# Altium schematic symbol library TPSD227M016R0200V.SchLib: 1 symbol
Pins are listed as number, name and electrical type; pins without a type are passive.

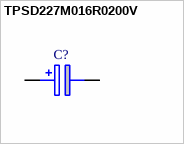
[diagram p0: symbol TPSD227M016R0200V]

## TPSD227M016R0200V
designator C?
Cap Tant Solid 220uF 16V D CASE 20% (7.3 X 4.3 X 2.9mm) Inward L SMD 7343-31 0.2 Ohm 125C T/R; Manufacturer_Name: AVX; Geometry.Height: 3.1mm; Manufacturer_Part_Number: TPSD227M016R0200V; Mouser Part Number: 581-TPSD227M016R200V; Mouser Price/Stock: https://www.mouser.co.uk/ProductDetail/AVX/TPSD227M016R0200V?qs=gTYE2QTfZfTvWYg4wQxf2A%3D%3D; Arrow Part Number: TPSD227M016R0200V; Arrow Price/Stock: https://www.arrow.com/en/products/tpsd227m016r0200v/avx; Mouser Testing Part Number: *; Mouser Testing Price/Stock: *; Datasheet Link: https://www.arrow.com/en/products/tpsd227m016r0200v/avx
footprint CAPPM7344X310N
pins: 1 +, 2 -